# Altium schematic symbol library Schlib1.SchLib: 4 symbols
Pins are listed as number, name and electrical type; pins without a type are passive.

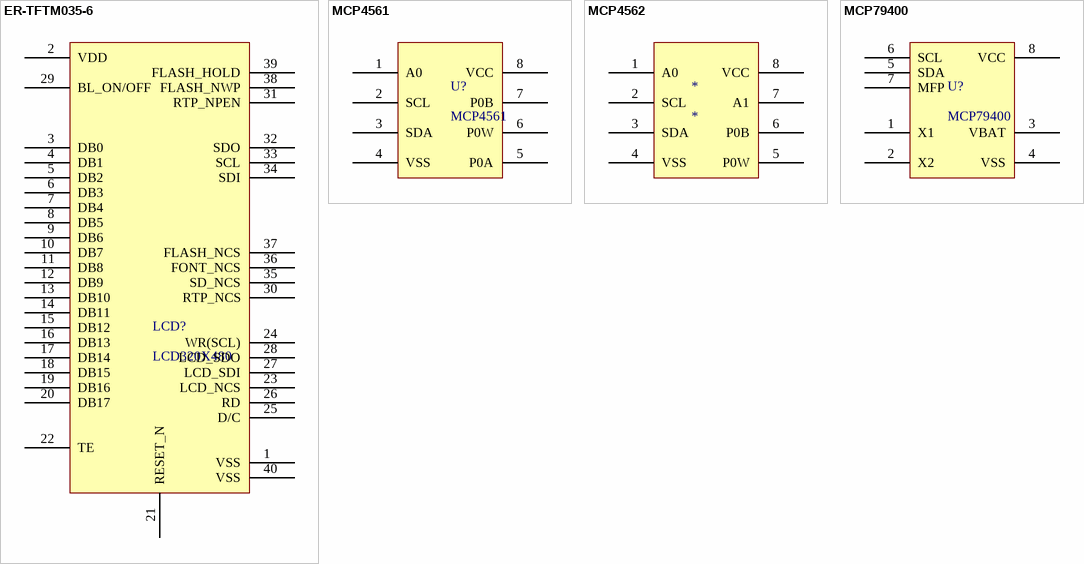
[diagram p0: symbols ER-TFTM035-6 to MCP79400]

## ER-TFTM035-6
designator LCD?, comment LCD320X480
pins: 1 VSS, 2 VDD, 3 DB0, 4 DB1, 5 DB2, 6 DB3, 7 DB4, 8 DB5, 9 DB6, 10 DB7, 11 DB8, 12 DB9, 13 DB10, 14 DB11, 15 DB12, 16 DB13, 17 DB14, 18 DB15, 19 DB16, 20 DB17, 21 RESET_N, 22 TE, 23 LCD_NCS, 24 WR(SCL), 25 D/C, 26 RD, 27 LCD_SDI, 28 LCD_SDO, 29 BL_ON/OFF, 30 RTP_NCS, 31 RTP_NPEN, 32 SDO, 33 SCL, 34 SDI, 35 SD_NCS, 36 FONT_NCS, 37 FLASH_NCS, 38 FLASH_NWP, 39 FLASH_HOLD, 40 VSS

## MCP4561
designator U?
pins: 1 A0, 2 SCL, 3 SDA, 4 VSS, 5 P0A, 6 P0W, 7 P0B, 8 VCC

## MCP4562
designator *
pins: 1 A0, 2 SCL, 3 SDA, 4 VSS, 5 P0W, 6 P0B, 7 A1, 8 VCC

## MCP79400
designator U?
pins: 1 X1, 2 X2, 3 VBAT, 4 VSS, 5 SDA, 6 SCL, 7 MFP, 8 VCC